# Altium footprint library FH-00148.PcbLib: 1 footprints
Each footprint in its own frame and in the unit in brackets; x right, y up, seen from the top. Pads: shape width x height; smd on the part's side, far side on the other; paste and mask are expansions set on the pad; w line width, h text height; cw(c..) or ccw(c..) is an arc to the next point about the centre after c.
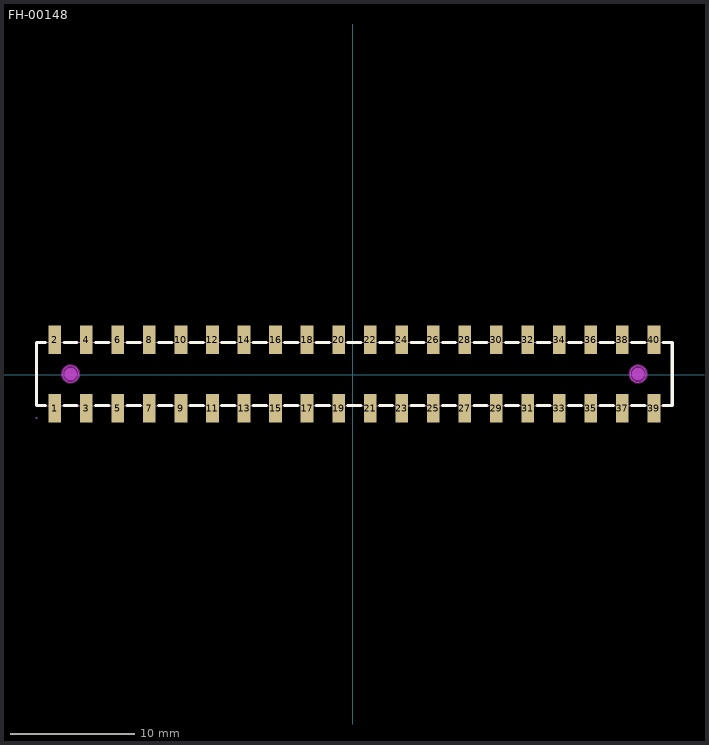
[diagram p0: the footprint, top view; thin cyan lines are the x and y axes]

## FH-00148 [mm]
pads (40):
  rect 1.02x2.3 smd paste+0 mask+0.051: 1(-24.003,-2.706) 2(-24.003,2.794) 3(-21.463,-2.706) 4(-21.463,2.794) 5(-18.923,-2.706) 6(-18.923,2.794) 7(-16.383,-2.706) 8(-16.383,2.794) 9(-13.843,-2.706) 10(-13.843,2.794) 11(-11.303,-2.706) 12(-11.303,2.794) 13(-8.763,-2.706) 14(-8.763,2.794) 15(-6.223,-2.706) 16(-6.223,2.794) 17(-3.683,-2.706) 18(-3.683,2.794) 19(-1.143,-2.706) 20(-1.143,2.794) 21(1.397,-2.706) 22(1.397,2.794) 23(3.937,-2.706) 24(3.937,2.794) 25(6.477,-2.706) 26(6.477,2.794) 27(9.017,-2.706) 28(9.017,2.794) 29(11.557,-2.706) 30(11.557,2.794) 31(14.097,-2.706) 32(14.097,2.794) 33(16.637,-2.706) 34(16.637,2.794) 35(19.177,-2.706) 36(19.177,2.794) 37(21.717,-2.706) 38(21.717,2.794) 39(24.257,-2.706) 40(24.257,2.794)
Top Overlay:
  lines w0.254: -24.744,-2.496 -25.473,-2.496 -25.473,2.584 -24.744,2.584 ; -23.262,-2.496 -22.204,-2.496 ; -23.262,2.584 -22.204,2.584 ; -20.722,-2.496 -19.664,-2.496 ; -20.722,2.584 -19.664,2.584 ; -18.182,-2.496 -17.124,-2.496 ; -18.182,2.584 -17.124,2.584 ; -15.642,-2.496 -14.584,-2.496 ; -15.642,2.584 -14.584,2.584 ; -13.102,-2.496 -12.044,-2.496 ; -13.102,2.584 -12.044,2.584 ; -10.562,-2.496 -9.504,-2.496 ; -10.562,2.584 -9.504,2.584 ; -8.022,-2.496 -6.964,-2.496 ; -8.022,2.584 -6.964,2.584 ; -5.482,-2.496 -4.424,-2.496 ; -5.482,2.584 -4.424,2.584 ; -2.942,-2.496 -1.884,-2.496 ; -2.942,2.584 -1.884,2.584 ; -0.402,-2.496 0.656,-2.496 ; -0.402,2.584 0.656,2.584 ; 2.138,-2.496 3.196,-2.496 ; 2.138,2.584 3.196,2.584 ; 4.678,-2.496 5.736,-2.496 ; 4.678,2.584 5.736,2.584 ; 7.218,-2.496 8.276,-2.496 ; 7.218,2.584 8.276,2.584 ; 9.758,-2.496 10.816,-2.496 ; 9.758,2.584 10.816,2.584 ; 12.298,-2.496 13.356,-2.496 ; 12.298,2.584 13.356,2.584 ; 14.838,-2.496 15.896,-2.496 ; 14.838,2.584 15.896,2.584 ; 17.378,-2.496 18.436,-2.496 ; 17.378,2.584 18.436,2.584 ; 19.918,-2.496 20.976,-2.496 ; 19.918,2.584 20.976,2.584 ; 22.458,-2.496 23.516,-2.496 ; 22.458,2.584 23.516,2.584 ; 24.998,-2.496 25.727,-2.496 25.727,2.584 24.998,2.584
Keep-Out Layer:
  board cut-out: 23.637,0.044 23.637,0.13 23.593,0.295 23.507,0.443 23.386,0.564 23.238,0.65 23.073,0.694 22.901,0.694 22.736,0.65 22.588,0.564 22.467,0.443 22.381,0.295 22.337,0.13 22.337,0.044 22.337,-0.042 22.381,-0.207 22.467,-0.355 22.588,-0.476 22.736,-0.562 22.901,-0.606 23.072,-0.606 23.238,-0.562 23.386,-0.476 23.507,-0.355 23.593,-0.207 23.637,-0.042 23.637,0.044
  board cut-out: -22.083,0.044 -22.083,0.13 -22.127,0.295 -22.213,0.443 -22.334,0.564 -22.482,0.65 -22.647,0.694 -22.819,0.694 -22.984,0.65 -23.132,0.564 -23.253,0.443 -23.339,0.295 -23.383,0.13 -23.383,0.044 -23.383,-0.042 -23.339,-0.207 -23.253,-0.355 -23.132,-0.476 -22.984,-0.562 -22.819,-0.606 -22.648,-0.606 -22.482,-0.562 -22.334,-0.476 -22.213,-0.355 -22.127,-0.207 -22.083,-0.042 -22.083,0.044
Mechanical 1:
  circle w0.025: c22.987,0.044 r0.65
  circle w0.025: c-22.733,0.044 r0.65
Mechanical 6:
  circle w0.5: c-22.733,0.044 r0.25
  circle w0.5: c22.987,0.044 r0.25
Mechanical 15:
  drawing of 45 lines, arcs and shapes, not listed
Multi-Layer keep-out:
  circle w0.254: c22.987,0.044 r0.65
  circle w0.254: c-22.733,0.044 r0.65